# Altium integrated library Passive.IntLib: 5 symbols
Pins are listed as number, name and electrical type; pins without a type are passive.

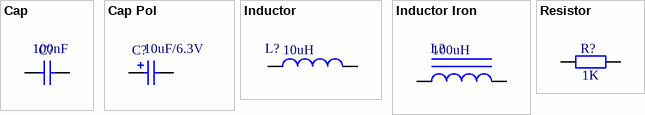
[diagram p0: symbols Cap to Resistor]

## Cap
designator C?  value 100nF  (hidden comment: Cap)
Capacitor; Published: 8-Jun-2000; LatestRevisionDate: 17-Jul-2002; LatestRevisionNote: Re-released for DXP Platform.; PackageReference: RAD-0.3; Publisher: Altium Limited
simulation model CAP (Capacitor)
signal-integrity model Cap
footprint CAPC1005N (Chip Capacitor, Body 1.0x0.5mm, IPC Medium Density)
footprint CAPC1210N (Chip Capacitor, Body 1.2x1.0mm, IPC Medium Density)
footprint CAPC1608N (Chip Capacitor, Body 1.6x0.8mm, IPC Medium Density)
footprint CAPC2012N (Chip Capacitor, Body 2.0x1.3mm, IPC Medium Density)
footprint CAPC2512N (Chip Capacitor, Body 2.54x1.27mm, IPC Medium Density)
footprint CAPC3216N (Chip Capacitor, Body 3.2x1.6mm, IPC Medium Density)
footprint CAPC3225N (Chip Capacitor, Body 3.2x2.5mm, IPC Medium Density)
footprint CAPC3812N (Chip Capacitor, Body 3.81x1.27mm, IPC Medium Density)
footprint CAPC3825N (Chip Capacitor, Body 3.81x2.54mm, IPC Medium Density)
footprint CAPC4532AN (Chip Capacitor, Body 4.5x3.2mm, IPC Medium Density)
footprint CAPC4532N (Chip Capacitor, Body 4.5x3.2mm, IPC Medium Density)
footprint CAPC4564AN (Chip Capacitor, Body 4.5x6.4mm, IPC Medium Density)
footprint CAPC7238N (Chip Capacitor, Body 7.2x3.8mm, IPC Medium Density)
footprint CAPC6728N (Chip Capacitor, Body 6.7x2.8mm, IPC Medium Density)
footprint CAPC5764N (Chip Capacitor, Body 5.7x6.4mm, IPC Medium Density)
footprint CAPC5764AN (Chip Capacitor, Body 5.7x6.4mm, IPC Medium Density)
footprint CAPC5750N (Chip Capacitor, Body 5.7x5.0mm, IPC Medium Density)
footprint CAPC5750AN (Chip Capacitor, Body 5.7x5.0mm, IPC Medium Density)
footprint CAPC5734N (Chip Capacitor, Body 5.7x3.4mm, IPC Medium Density)
footprint CAPC5125N (Chip Capacitor, Body 5.08x2.54mm, IPC Medium Density)
footprint CAPC5112N (Chip Capacitor, Body 5.08x1.27mm, IPC Medium Density)
footprint CAPC4620N (Chip Capacitor, Body 4.6x2.0mm, IPC Medium Density)
footprint CAPC4612N (Chip Capacitor, Body 4.57x1.27mm, IPC Medium Density)
footprint CAPC4564N (Chip Capacitor, Body 4.5x6.4mm, IPC Medium Density)
footprint CAP-R22.8-W8 (Capacitor, Film, Radial; Body 8 x 26 x 25 mm (AxBxH typ); Pin Spacing 22.86 mm (typ))
footprint CAP-R22.8-W10 (Capacitor, Film, Radial; Body 10 x 26 x 25 mm (AxBxH typ); Pin Spacing 22.86 mm (typ))
footprint CAP-R27.94-R22.8-W8_Combi (Capacitor, Film, Radial; Body 8 x 30 x 25 mm (AxBxH typ); Pin Spacing 27.94 mm (typ))
footprint CAP-R27.94-R22.8-W10_Combi (Capacitor, Film, Radial; Body 10 x 30 x 25 mm (AxBxH typ); Pin Spacing 27.94 mm (typ))
footprint CAP-R27.94-W8 (Capacitor, Film, Radial; Body 8 x 30 x 25 mm (AxBxH typ); Pin Spacing 27.94 mm (typ))
footprint CAP-R27.94-W10 (Capacitor, Film, Radial; Body 10 x 30 x 25 mm (AxBxH typ); Pin Spacing 27.94 mm (typ))
footprint CAPC2012W (Chip Capacitor, Body 2.0x1.3mm, IPC Medium Density)
footprint 0805
footprint 1206
pins: 1, 2

## Cap Pol
designator C?  value 10uF/6.3V  (hidden comment: Cap Pol)
Polarized Capacitor (Surface Mount); Published: 8-Jun-2000; LatestRevisionDate: 29-May-2009; LatestRevisionNote: IPC-7351 Footprint Added.; PackageReference: C0805; Publisher: Altium Limited; PackageDescription: Chip Capacitor
simulation model CAP (Capacitor)
signal-integrity model Cap Pol
footprint TC2013-0805 (Capacitor, SM Tantalum; Body 2.0 x 1.3 mm (LxW typ))
footprint TC2013-0805/X1.2 (Capacitor, SM Tantalum; Body 2.0 x 1.25 mm (LxW typ))
footprint TC3216-1206 (Capacitor, SM Tantalum; Body 3.2 x 1.6 mm (LxW typ))
footprint TC3528-1411 (Capacitor, SM Tantalum; Body 3.5 x 2.8 mm (LxW typ))
footprint TC6032-2412 (Capacitor, SM Tantalum; Body 6.0 x 3.2 mm (LxW typ))
footprint TC7343-2917 (Capacitor, SM Tantalum; Body 7.3 x 4.3 mm (LxW typ))
footprint TC7360-2924 (Capacitor, SM Tantalum; Body 7.3 x 6.0 mm (LxW typ))
footprint CAPPR1.5-4x5 (Capacitor, Electrolytic, Radial; Body 4 x 5 mm (Dia.xH typ); Pin Spacing 1.5 mm (typ))
footprint CAPPR1.5-4x7 (Capacitor, Electrolytic, Radial; Body 4 x 7 mm (Dia.xH typ); Pin Spacing 1.5 mm (typ))
footprint CAPPR1.78-2.54x5.72 (Capacitor, Radial, Tantalum; Body 2.54 x 5.72 mm (Dia.xH max); Pin Spacing 1.78 mm (typ))
footprint CAPPR2-4x6.8 (Capacitor, Electrolytic, Radial; Body 4 x 6.8 mm (Dia.xH typ); Pin Spacing 2 mm (typ))
footprint CAPPR2-5x6.8 (Capacitor, Electrolytic, Radial; Body 5 x 6.8 mm (Dia.xH typ); Pin Spacing 2 mm (typ))
footprint CAPPR2-5x6.8 (Capacitor, Electrolytic, Radial; Body 5 x 6.8 mm (Dia.xH typ); Pin Spacing 2 mm (typ))
footprint CAPPR2-5x11 (Capacitor, Electrolytic, Radial; Body 5 x 11 mm (Dia.xH typ); Pin Spacing 2 mm (typ))
footprint CAPPR2.5-6.3x5 (Capacitor, Electrolytic, Radial; Body 6.3 x 5 mm (Dia.xH typ); Pin Spacing 2.5 mm (typ))
footprint CAPPR2.5-6.3x5/H.9 (Capacitor, Electrolytic, Radial; Body 6.3 x 5 mm (Dia.xH typ); Pin Spacing 2.5 mm (typ))
footprint CAPPR2.5-6.3x9.8 (Capacitor, Electrolytic, Radial; Body 6.3 x 9.8 mm (Dia.xH typ); Pin Spacing 2.5 mm (typ))
footprint CAPPR2.5-6.3x11 (Capacitor, Electrolytic, Radial; Body 6.3 x 11 mm (Dia.xH typ); Pin Spacing 2.5 mm (typ))
footprint CAPPR3.05-3.81x6.35 (Capacitor, Radial, Tantalum; Body 3.81 x 6.35 mm (Dia.xH max); Pin Spacing 3.05 mm (typ))
footprint CAPPR3.5-8x5 (Capacitor, Electrolytic, Radial; Body 8 x 5 mm (Dia.xH typ); Pin Spacing 3.5 mm (typ))
footprint CAPPR5-4x5 (Capacitor, Electrolytic, Radial; Body 4 x 5 mm (Dia.xH typ); Pin Spacing 5 mm (typ))
footprint CAPPR5-5x5 (Capacitor, Electrolytic, Radial; Body 5 x 5 mm (Dia.xH typ); Pin Spacing 5 mm (typ))
footprint CAPPR5-6.3x5 (Capacitor, Electrolytic, Radial; Body 6.3 x 5 mm (Dia.xH typ); Pin Spacing 5 mm (typ))
footprint CAPPR5-8x5 (Capacitor, Electrolytic, Radial; Body 8 x 5 mm (Dia.xH typ); Pin Spacing 5 mm (typ))
footprint CAPPR5-8x11.5 (Capacitor, Electrolytic, Radial; Body 8 x 11.5 mm (Dia.xH typ); Pin Spacing 5 mm (typ))
footprint CAPPR5-10x5 (Capacitor, Electrolytic, Radial; Body 10 x 5 mm (Dia.xH typ); Pin Spacing 5 mm (typ))
footprint CAPPR5-10x5/H.9 (Capacitor, Electrolytic, Radial; Body 10 x 5 mm (Dia.xH typ); Pin Spacing 5 mm (typ))
footprint CAPPR5-10x20/H1.1 (Capacitor, Electrolytic, Radial; Body 10 x 20 mm (Dia.xH typ); Pin Spacing 5 mm (typ))
footprint CAPPR5-12.5x20 (Capacitor, Electrolytic, Radial; Body 12.5 x 20 mm (Dia.xH typ); Pin Spacing 5 mm (typ))
footprint CAPPR5-12.5x22 (Capacitor, Electrolytic, Radial; Body 12.5 x 22 mm (Dia.xH typ); Pin Spacing 5 mm (typ))
footprint CAPPR5-13x16 (Capacitor, Electrolytic, Radial; Body 13 x 16 mm (Dia.xH typ); Pin Spacing 5 mm (typ))
pins: 1, 2
1 alternate drawing of the same symbol

## Inductor
designator L?  value 10uH  (hidden comment: Inductor)
Magnetic-Core Inductor; Published: 24-Mar-1999; LatestRevisionDate: 17-Jul-2002; LatestRevisionNote: Re-released for DXP Platform.; PackageReference: AXIAL-0.9; Publisher: Altium Limited
footprint AXIAL-0.9 (Axial Device, Thru-Hole; 2 Leads; 0.9 in Pin Spacing)
simulation model INDUCTOR (Inductor)
signal-integrity model Inductor Iron
footprint INDC0603N (Chip Inductor, Body 0.6x0.3mm, IPC Medium Density)
footprint INDC1005AN (Chip Inductor, Body 1.0x0.5mm, IPC Medium Density)
footprint INDC1005N (Chip Inductor, Body 1.0x0.5mm, IPC Medium Density)
footprint INDC1608AN (Chip Inductor, Body 1.6x0.8mm, IPC Medium Density)
footprint INDC1608N (Chip Inductor, Body 1.6x0.8mm, IPC Medium Density)
footprint INDC2009N (Chip Inductor, Body 2.0x0.9mm, IPC Medium Density)
footprint INDC2012N (Chip Inductor, Body 2.0x1.2mm, IPC Medium Density)
footprint INDC2115N (Chip Inductor, Body 2.1x1.5mm, IPC Medium Density)
footprint INDC3216AN (Chip Inductor, Body 3.2x1.6mm, IPC Medium Density)
footprint INDC3216N (Chip Inductor, Body 3.2x1.6mm, IPC Medium Density)
footprint INDC3225N (Chip Inductor, Body 3.2x2.5mm, IPC Medium Density)
footprint INDC4509N (Chip Inductor, Body 4.5x0.9mm, IPC Medium Density)
footprint INDC4516AN (Chip Inductor, Body 4.5x1.6mm, IPC Medium Density)
footprint INDC4532AN (Chip Inductor, Body 4.5x3.2mm, IPC Medium Density)
footprint INDC4532N (Chip Inductor, Body 4.5x3.2mm, IPC Medium Density)
footprint INDC5750N (Chip Inductor, Body 5.7x5.0mm, IPC Medium Density)
footprint AXIAL-0.3 (Axial Device, Thru-Hole; 2 Leads; 0.3 in Pin Spacing)
footprint AXIAL-0.4 (Axial Device, Thru-Hole; 2 Leads; 0.4 in Pin Spacing)
footprint AXIAL-0.5 (Axial Device, Thru-Hole; 2 Leads; 0.5 in Pin Spacing)
footprint AXIAL-0.6 (Axial Device, Thru-Hole; 2 Leads; 0.6 in Pin Spacing)
footprint AXIAL-0.7 (Axial Device, Thru-Hole; 2 Leads; 0.7 in Pin Spacing)
footprint AXIAL-0.8 (Axial Device, Thru-Hole; 2 Leads; 0.8 in Pin Spacing)
footprint AXIAL-1.0 (Axial Device, Thru-Hole; 2 Leads; 1.0 in Pin Spacing)
footprint RCH895 (Inductor, Radial; Body 7.8 x 9.5 mm (Dia.xH typ); Pin Spacing 5.0 mm (typ))
pins: 1, 2

## Inductor Iron
designator L?  value 100uH  (hidden comment: Inductor Iron)
Magnetic-Core Inductor; Published: 24-Mar-1999; LatestRevisionDate: 17-Jul-2002; LatestRevisionNote: Re-released for DXP Platform.; PackageReference: AXIAL-0.9; Publisher: Altium Limited
footprint AXIAL-0.9 (Axial Device, Thru-Hole; 2 Leads; 0.9 in Pin Spacing)
simulation model INDUCTOR (Inductor)
signal-integrity model Inductor Iron
footprint KMP4900 (12.2x12.2x8.0 (XxYxZ))
footprint INDC0603N (Chip Inductor, Body 0.6x0.3mm, IPC Medium Density)
footprint INDC1005AN (Chip Inductor, Body 1.0x0.5mm, IPC Medium Density)
footprint INDC1005N (Chip Inductor, Body 1.0x0.5mm, IPC Medium Density)
footprint INDC1608AN (Chip Inductor, Body 1.6x0.8mm, IPC Medium Density)
footprint INDC1608N (Chip Inductor, Body 1.6x0.8mm, IPC Medium Density)
footprint INDC2009N (Chip Inductor, Body 2.0x0.9mm, IPC Medium Density)
footprint INDC2012N (Chip Inductor, Body 2.0x1.2mm, IPC Medium Density)
footprint INDC2115N (Chip Inductor, Body 2.1x1.5mm, IPC Medium Density)
footprint INDC3216AN (Chip Inductor, Body 3.2x1.6mm, IPC Medium Density)
footprint INDC3216N (Chip Inductor, Body 3.2x1.6mm, IPC Medium Density)
footprint INDC3225N (Chip Inductor, Body 3.2x2.5mm, IPC Medium Density)
footprint INDC4509N (Chip Inductor, Body 4.5x0.9mm, IPC Medium Density)
footprint INDC4516AN (Chip Inductor, Body 4.5x1.6mm, IPC Medium Density)
footprint INDC4532AN (Chip Inductor, Body 4.5x3.2mm, IPC Medium Density)
footprint INDC4532N (Chip Inductor, Body 4.5x3.2mm, IPC Medium Density)
footprint INDC5750N (Chip Inductor, Body 5.7x5.0mm, IPC Medium Density)
footprint IndR3.3-6x8 (Inductor, Radial; Body 6.0 x 8 mm (Dia.xH typ); Pin Spacing 3.3 mm (typ))
footprint IndR10-18x27 (Inductor, Radial; Body 18 x 27 mm (Dia.xH typ); Pin Spacing 10 mm (typ))
footprint IndT7.5-K14x7x7 (Inductor, Toroidal; Body 15x9x15 mm (AxBxH); Pin Spacing 7.5 mm (typ))
footprint IndT22-K28x16x18 (Inductor, Toroidal; Body 34x25x34 mm (AxBxH); Pin Spacing 22 mm (typ))
footprint L-Iron
footprint CDRH64 (Power Inductor, Body 6.9x6.5x5.0mm)
footprint AXIAL-0.3 (Axial Device, Thru-Hole; 2 Leads; 0.3 in Pin Spacing)
footprint AXIAL-0.4 (Axial Device, Thru-Hole; 2 Leads; 0.4 in Pin Spacing)
footprint AXIAL-0.5 (Axial Device, Thru-Hole; 2 Leads; 0.5 in Pin Spacing)
footprint AXIAL-0.6 (Axial Device, Thru-Hole; 2 Leads; 0.6 in Pin Spacing)
footprint AXIAL-0.7 (Axial Device, Thru-Hole; 2 Leads; 0.7 in Pin Spacing)
footprint AXIAL-0.8 (Axial Device, Thru-Hole; 2 Leads; 0.8 in Pin Spacing)
footprint AXIAL-1.0 (Axial Device, Thru-Hole; 2 Leads; 1.0 in Pin Spacing)
footprint RCH895 (Inductor, Radial; Body 7.8 x 9.5 mm (Dia.xH typ); Pin Spacing 5.0 mm (typ))
footprint INDT 27/15/11 (YELLOW)
pins: 1, 2

## Resistor
designator R?  value 1K  (hidden comment: Resistor)
Published: 8-Jun-2000; LatestRevisionDate: 17-Jul-2002; LatestRevisionNote: Re-released for DXP Platform.; PackageReference: AXIAL-0.4; Publisher: Altium Limited
footprint AXIAL-0.4 (Axial Device, Thru-Hole; 2 Leads; 0.4 in Pin Spacing)
simulation model RESISTOR (Resistor)
signal-integrity model Res
footprint AXIAL-0.3 (Axial Device, Thru-Hole; 2 Leads; 0.3 in Pin Spacing)
footprint AXIAL-0.5 (Axial Device, Thru-Hole; 2 Leads; 0.5 in Pin Spacing)
footprint AXIAL-0.6 (Axial Device, Thru-Hole; 2 Leads; 0.6 in Pin Spacing)
footprint AXIAL-0.7 (Axial Device, Thru-Hole; 2 Leads; 0.7 in Pin Spacing)
footprint AXIAL-0.8 (Axial Device, Thru-Hole; 2 Leads; 0.8 in Pin Spacing)
footprint AXIAL-0.9 (Axial Device, Thru-Hole; 2 Leads; 0.9 in Pin Spacing)
footprint AXIAL-1.0 (Axial Device, Thru-Hole; 2 Leads; 1.0 in Pin Spacing)
footprint RESC0603N (Chip Resistor, Body 0.6x0.3mm, IPC Medium Density)
footprint RESC1005N (Chip Resistor, Body 1.1x0.5mm, IPC Medium Density)
footprint RESC6432N (Chip Resistor, Body 6.4x3.2mm, IPC Medium Density)
footprint RESC6432BN (Chip Resistor, Body 6.4x3.2mm, IPC Medium Density)
footprint RESC6432AN (Chip Resistor, Body 6.4x3.2mm, IPC Medium Density)
footprint RESC6332N (Chip Resistor, Body 6.3x3.2mm, IPC Medium Density)
footprint RESC5025N (Chip Resistor, Body 5.0x2.5mm, IPC Medium Density)
footprint RESC4532N (Chip Resistor, Body 4.5x3.2mm, IPC Medium Density)
footprint RESC4532N (Chip Resistor, Body 4.5x3.2mm, IPC Medium Density)
footprint RESC4532AN (Chip Resistor, Body 4.5x3.2mm, IPC Medium Density)
footprint RESC3225N (Chip Resistor, Body 3.2x2.5mm, IPC Medium Density)
footprint RESC3216N (Chip Resistor, Body 3.2x1.6mm, IPC Medium Density)
footprint RESC2012N (Chip Resistor, Body 2.0x1.3mm, IPC Medium Density)
footprint RESC1608N (Chip Resistor, Body 1.6x0.8mm, IPC Medium Density)
footprint RESC2012W (Chip Resistor, Body 2.0x1.3mm, IPC Medium Density)
footprint 0805
footprint 1206
pins: 1, 2